# EAGLE library part CORETWO_LAYOUT (library expboard)
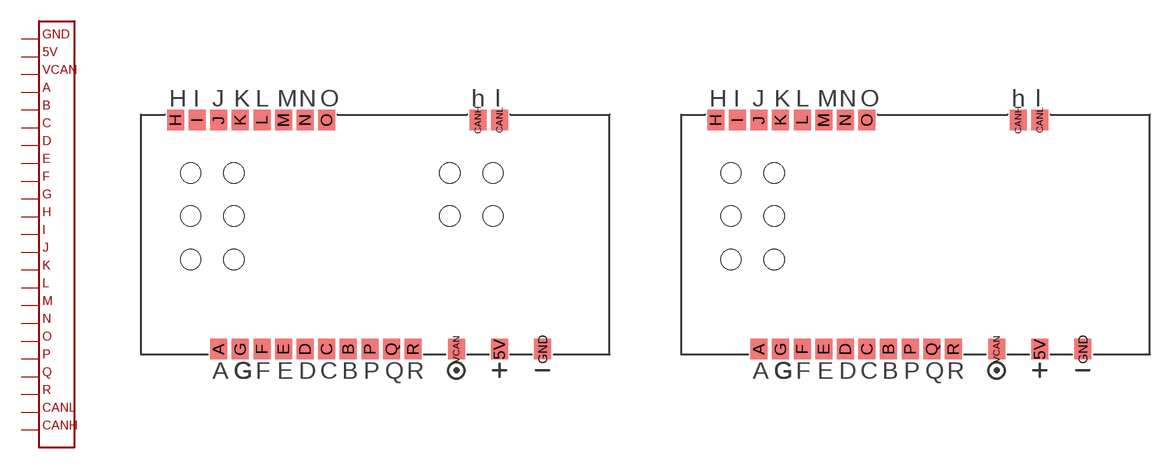
[diagram p8: symbol with the pads of CORETWO_LAYOUT; footprints CORETWO_LAYOUT, CORETWO_LAYOUT_ISPHOLES]

Designator prefix X

## CORETWO_LAYOUTALLHOLES  [CORETWO_LAYOUT]
5V  5V
A  A
B  B
C  C
CANH  CANH
CANL  CANL
D  D
E  E
F  F
G  G
GND  GND
H  H
I  I
J  J
K  K
L  L
M  M
N  N
O  O
P  P
Q  Q
R  R
VCAN  VCAN

## CORETWO_LAYOUTISPHOLES  [CORETWO_LAYOUT_ISPHOLES]
Pads as for CORETWO_LAYOUT

## CORETWO_LAYOUTNOHOLES  [CORETWO_LAYOUT_NOHOLES]
Pads as for CORETWO_LAYOUT

## CORETWO_LAYOUTALLHOLES_CU  [CORETWO_LAYOUT_CU]
Pads as for CORETWO_LAYOUT

## CORETWO_LAYOUTISPHOLES_CU  [CORETWO_LAYOUT_ISPHOLES_CU]
Pads as for CORETWO_LAYOUT

## Footprint CORETWO_LAYOUT (pad centres in mm)
smd 1 x 1.2: 5V 17.78,0.362; A 1.27,0.362; B 8.89,0.362; C 7.62,0.362; CANH 16.51,13.824; CANL 17.78,13.824; D 6.35,0.362; E 5.08,0.362; F 3.81,0.362; G 2.54,0.362; GND 20.32,0.362; H -1.27,13.824; I 0,13.824; J 1.27,13.824; K 2.54,13.824; L 3.81,13.824; M 5.08,13.824; N 6.35,13.824; O 7.62,13.824; P 10.16,0.362; Q 11.43,0.362; R 12.7,0.362; VCAN 15.24,0.362
hole 1.2 at -0.381,10.719
hole 1.2 at 2.159,10.719
hole 1.2 at -0.381,8.179
hole 1.2 at -0.381,5.639
hole 1.2 at 2.159,8.179
hole 1.2 at 2.159,5.639
hole 1.2 at 14.859,10.719
hole 1.2 at 17.399,10.719
hole 1.2 at 17.399,8.179
hole 1.2 at 14.859,8.179

## Footprint CORETWO_LAYOUT_ISPHOLES (pad centres in mm)
smd 1 x 1.2: 5V 17.78,0.362; A 1.27,0.362; B 8.89,0.362; C 7.62,0.362; CANH 16.51,13.824; CANL 17.78,13.824; D 6.35,0.362; E 5.08,0.362; F 3.81,0.362; G 2.54,0.362; GND 20.32,0.362; H -1.27,13.824; I 0,13.824; J 1.27,13.824; K 2.54,13.824; L 3.81,13.824; M 5.08,13.824; N 6.35,13.824; O 7.62,13.824; P 10.16,0.362; Q 11.43,0.362; R 12.7,0.362; VCAN 15.24,0.362
hole 1.2 at -0.381,10.719
hole 1.2 at 2.159,10.719
hole 1.2 at -0.381,8.179
hole 1.2 at -0.381,5.639
hole 1.2 at 2.159,8.179
hole 1.2 at 2.159,5.639

## Footprint CORETWO_LAYOUT_NOHOLES (pad centres in mm)
smd 1 x 1.2: 5V 17.78,0.362; A 1.27,0.362; B 8.89,0.362; C 7.62,0.362; CANH 16.51,13.824; CANL 17.78,13.824; D 6.35,0.362; E 5.08,0.362; F 3.81,0.362; G 2.54,0.362; GND 20.32,0.362; H -1.27,13.824; I 0,13.824; J 1.27,13.824; K 2.54,13.824; L 3.81,13.824; M 5.08,13.824; N 6.35,13.824; O 7.62,13.824; P 10.16,0.362; Q 11.43,0.362; R 12.7,0.362; VCAN 15.24,0.362

## Footprint CORETWO_LAYOUT_CU (pad centres in mm)
smd 1 x 1.2: 5V 7.62,-7.258; A -8.89,-7.258; B -1.27,-7.258; C -2.54,-7.258; CANH 6.35,6.204; CANL 7.62,6.204; D -3.81,-7.258; E -5.08,-7.258; F -6.35,-7.258; G -7.62,-7.258; GND 10.16,-7.258; H -11.43,6.204; I -10.16,6.204; J -8.89,6.204; K -7.62,6.204; L -6.35,6.204; M -5.08,6.204; N -3.81,6.204; O -2.54,6.204; P 0,-7.258; Q 1.27,-7.258; R 2.54,-7.258; VCAN 5.08,-7.258
drill 0.6 round: P$1 -10.541,3.099; P$2 -8.001,3.099; P$3 -10.541,0.559; P$4 -8.001,0.559; P$5 -8.001,-1.981; P$6 -10.541,-1.981
hole 1.2 at 4.699,3.099
hole 1.2 at 7.239,3.099
hole 1.2 at 7.239,0.559
hole 1.2 at 4.699,0.559

## Footprint CORETWO_LAYOUT_ISPHOLES_CU (pad centres in mm)
smd 1 x 1.2: 5V 7.315,-6.648; A -9.195,-6.648; B -1.575,-6.648; C -2.845,-6.648; CANH 6.045,6.814; CANL 7.315,6.814; D -4.115,-6.648; E -5.385,-6.648; F -6.655,-6.648; G -7.925,-6.648; GND 9.855,-6.648; H -11.735,6.814; I -10.465,6.814; J -9.195,6.814; K -7.925,6.814; L -6.655,6.814; M -5.385,6.814; N -4.115,6.814; O -2.845,6.814; P -0.305,-6.648; Q 0.965,-6.648; R 2.235,-6.648; VCAN 4.775,-6.648
drill 0.6 round: P$1 -10.846,3.708; P$2 -8.306,3.708; P$3 -10.846,1.168; P$4 -8.306,1.168; P$5 -8.306,-1.372; P$6 -10.846,-1.372